# Altium footprint library UMLP16.PcbLib: 1 footprints
Each footprint in its own frame and in the unit in brackets; x right, y up, seen from the top. Pads: shape width x height; smd on the part's side, far side on the other; paste and mask are expansions set on the pad; w line width, h text height; cw(c..) or ccw(c..) is an arc to the next point about the centre after c.
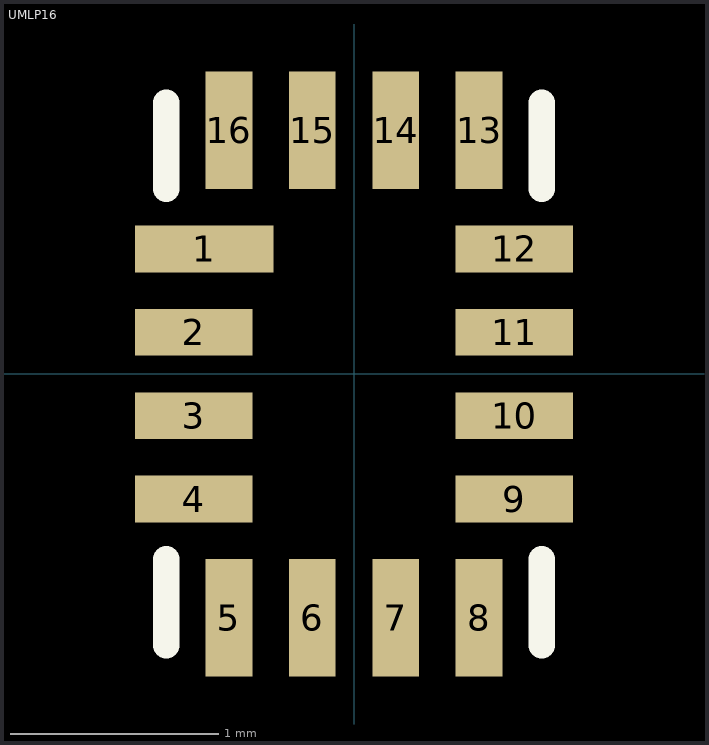
[diagram p0: the footprint, top view; thin cyan lines are the x and y axes]

## UMLP16 [mm]
height 0.8
pads (16):
  rect 0.663x0.225 smd paste-0.025 mask-0.5: 1(-0.718,0.6)
  rect 0.563x0.225 smd paste-0.025 mask-5: 2(-0.768,0.2) 3(-0.768,-0.2) 4(-0.768,-0.6) 9(0.768,-0.6) 10(0.768,-0.2) 11(0.768,0.2) 12(0.768,0.6)
  rect 0.225x0.563 smd paste-0.025 mask-5: 5(-0.6,-1.168) 6(-0.2,-1.168) 7(0.2,-1.168) 8(0.6,-1.168) 13(0.6,1.168) 14(0.2,1.168) 15(-0.2,1.168) 16(-0.6,1.168)
Top Overlay:
  lines w0.127: -0.9,-1.3 -0.9,-0.889 ; -0.9,0.889 -0.9,1.3 ; 0.9,-1.3 0.9,-0.889 ; 0.9,0.889 0.9,1.3
Top Solder:
  region: -1.125,0.788 -0.312,0.788 -0.312,0.413 -0.412,0.413 -0.412,-0.787 -1.125,-0.787
  region: -0.788,-0.812 0.788,-0.812 0.788,-1.525 -0.788,-1.525
  region: 1.125,0.787 1.125,-0.788 0.412,-0.788 0.412,0.787
  region: -0.788,1.525 0.788,1.525 0.788,0.812 -0.788,0.812
3D body: height 0.55, standoff 0, extent -0.9,-1.3 0.9,1.3